# EAGLE library part ESP32-C3-MINI-1-H4X (library ESP32-C3-MINI-1-H4X)
Bluetooth, WiFi 802.11b/g/n, Bluetooth v5.0 Transceiver Module 2.412GHz ~ 2.484GHz PCB Trace Surface Mount Source: Datasheet
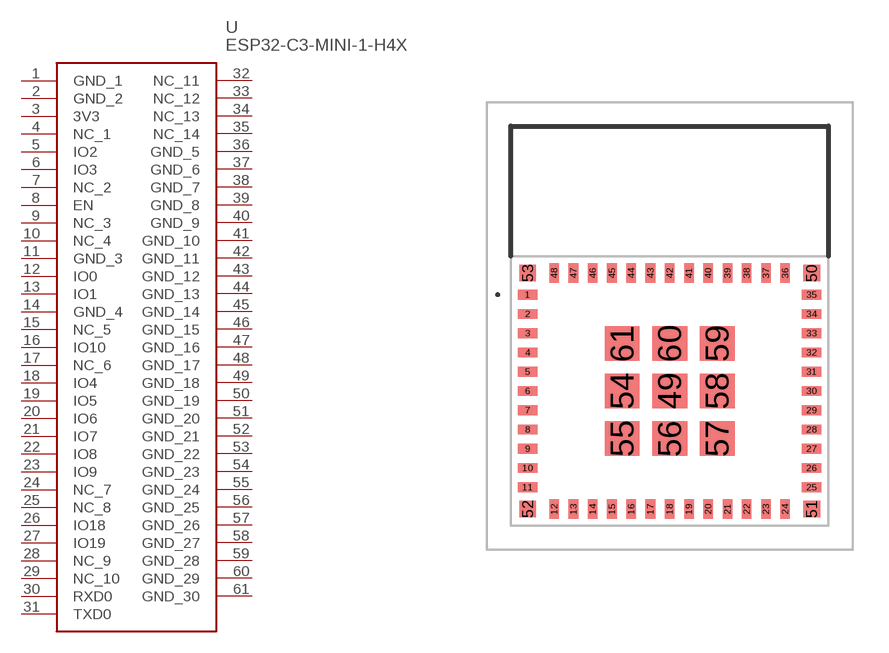
[diagram p0: symbol with the pads of ESP32C3MINI1H4X; footprint ESP32C3MINI1H4X]

Designator prefix U

## ESP32-C3-MINI-1-H4X (Description: Bluetooth, WiFi 802.11b/g/n, Bluetooth v5.0 Transceiver Module 2.412GHz ~ 2.484GHz PCB Trace Surface Mount; Height: 2.55mm; Manufacturer_Name: Espressif Systems; Manufacturer_Part_Number: ESP32-C3-MINI-1-H4X; Mouser_Part_Number: 356-ESP32C3MINI1H4X; Mouser_Price-Stock: https://www.mouser.co.uk/ProductDetail/Espressif-Systems/ESP32-C3-MINI-1-H4X?qs=olJun0bQHM%252Bm8wbucOd%2FlA%3D%3D)  [ESP32C3MINI1H4X]
1  GND_1
2  GND_2
3  3V3
4  NC_1
5  IO2
6  IO3
7  NC_2
8  EN
9  NC_3
10  NC_4
11  GND_3
12  IO0
13  IO1
14  GND_4
15  NC_5
16  IO10
17  NC_6
18  IO4
19  IO5
20  IO6
21  IO7
22  IO8
23  IO9
24  NC_7
25  NC_8
26  IO18
27  IO19
28  NC_9
29  NC_10
30  RXD0
31  TXD0
32  NC_11
33  NC_12
34  NC_13
35  NC_14
36  GND_5
37  GND_6
38  GND_7
39  GND_8
40  GND_9
41  GND_10
42  GND_11
43  GND_12
44  GND_13
45  GND_14
46  GND_15
47  GND_16
48  GND_17
49  GND_18
50  GND_19
51  GND_20
52  GND_21
53  GND_22
54  GND_23
55  GND_24
56  GND_25
57  GND_26
58  GND_27
59  GND_28
60  GND_29
61  GND_30

## Footprint ESP32C3MINI1H4X (pad centres in mm)
13.2 mm x 16.6 mm x 2.4 mm
smd 0.8 x 0.4: 1 -5.9,1.3; 2 -5.9,0.5; 3 -5.9,-0.3; 4 -5.9,-1.1; 5 -5.9,-1.9; 6 -5.9,-2.7; 7 -5.9,-3.5; 8 -5.9,-4.3; 9 -5.9,-5.1; 10 -5.9,-5.9; 11 -5.9,-6.7; 25 5.9,-6.7; 26 5.9,-5.9; 27 5.9,-5.1; 28 5.9,-4.3; 29 5.9,-3.5; 30 5.9,-2.7; 31 5.9,-1.9; 32 5.9,-1.1; 33 5.9,-0.3; 34 5.9,0.5; 35 5.9,1.3
smd 0.4 x 0.8: 12 -4.8,-7.6; 13 -4,-7.6; 14 -3.2,-7.6; 15 -2.4,-7.6; 16 -1.6,-7.6; 17 -0.8,-7.6; 18 0,-7.6; 19 0.8,-7.6; 20 1.6,-7.6; 21 2.4,-7.6; 22 3.2,-7.6; 23 4,-7.6; 24 4.8,-7.6; 36 4.8,2.2; 37 4,2.2; 38 3.2,2.2; 39 2.4,2.2; 40 1.6,2.2; 41 0.8,2.2; 42 0,2.2; 43 -0.8,2.2; 44 -1.6,2.2; 45 -2.4,2.2; 46 -3.2,2.2; 47 -4,2.2; 48 -4.8,2.2
smd 1.45 x 1.45: 49 0,-2.7; 54 -1.975,-2.7; 55 -1.975,-4.675; 56 0,-4.675; 57 1.975,-4.675; 58 1.975,-2.7; 59 1.975,-0.725; 60 0,-0.725; 61 -1.975,-0.725
smd 0.7 x 0.7: 50 5.9,2.2; 51 5.9,-7.6; 52 -5.9,-7.6; 53 -5.9,2.2